# Altium footprint library SS34.PcbLib: 1 footprints
Each footprint in its own frame and in the unit in brackets; x right, y up, seen from the top. Pads: shape width x height; smd on the part's side, far side on the other; paste and mask are expansions set on the pad; w line width, h text height; cw(c..) or ccw(c..) is an arc to the next point about the centre after c.
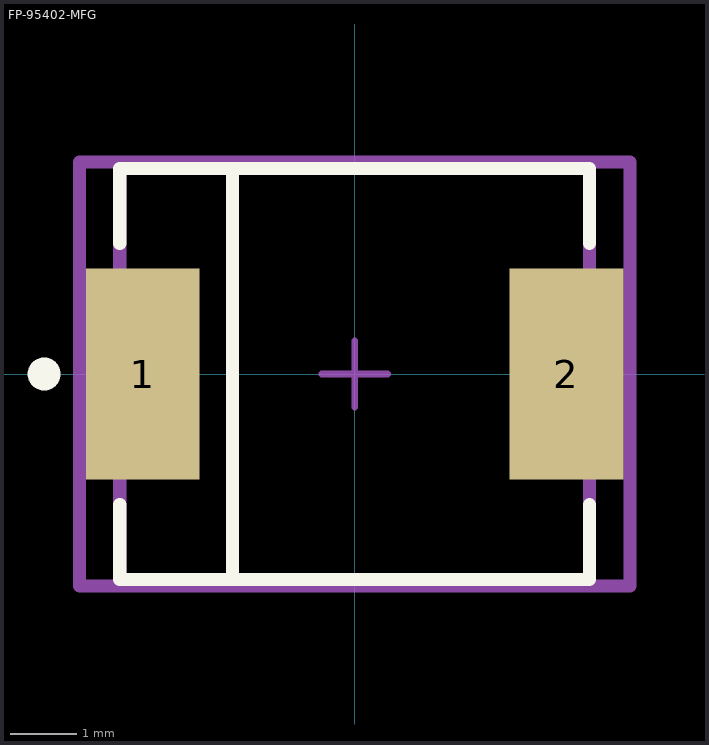
[diagram p0: the footprint, top view; thin cyan lines are the x and y axes]

## FP-95402-MFG [mm]
pads (2):
  rect 1.72x3.2 smd paste+0 mask+0: 1(-3.205,0) 2(3.205,0)
Top Overlay:
  circle w0.25: c-4.7,0 r0.125
  lines w0.2: -3.555,-1.975 -3.555,-3.11 3.555,-3.11 3.555,-1.975 ; -3.555,1.975 -3.555,3.11 3.555,3.11 3.555,1.975 ; -1.85,-3 -1.85,3
Top Assembly:
  lines w0.2: -4.165,-3.21 -4.165,3.21 4.165,3.21 4.165,-3.21 -4.165,-3.21
  text ".Designator" at 0,-0.001 h1
Top 3D Body:
  lines w0.2: -3.555,-3.11 -3.555,3.11 3.555,3.11 3.555,-3.11 -3.555,-3.11
Top Courtyard:
  lines w0.2: -4.165,-3.21 -4.165,3.21 4.165,3.21 4.165,-3.21 -4.165,-3.21
Top Component Center:
  lines w0.1: -0.5,0 0.5,0 ; 0,-0.5 0,0.5
3D body "Diode_Vishay_SS34-E3-57T_eec.STEP": height 0.25, standoff 0, extent -4.165,-3.21 4.165,3.21